# Altium integrated library Altium_WCAP-CSGP (rev22f).IntLib: 999 symbols (part 16 of 21)
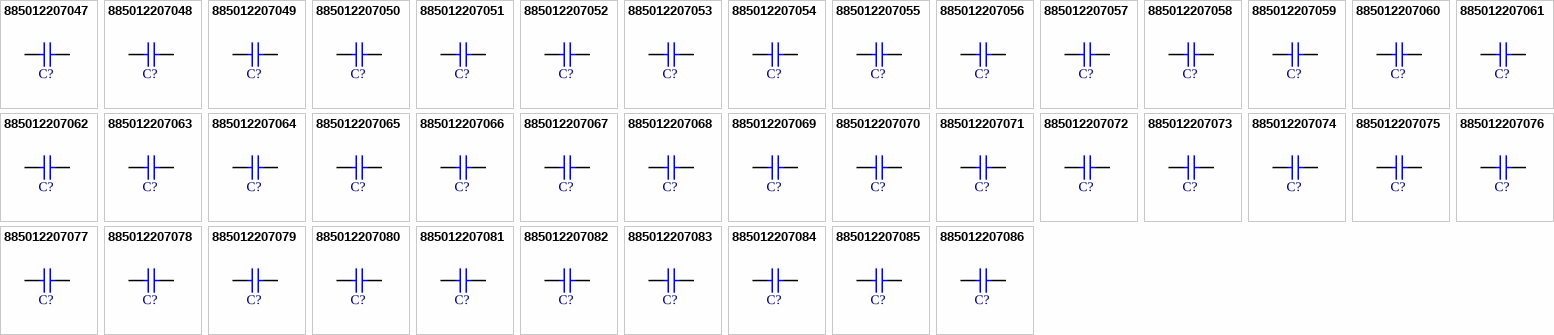
[diagram p39: symbols 885012207047 to 885012207086]

## 885012207055
designator C?, comment 150pF  (value not drawn)
WCAP-CSGP Multilayer Ceramic Chip Capacitor, General Purpose, size 0805, X7R, 150pF, 25VDC; Manufacturer Part Number: 885012207055; Manufacturer: Wurth Elektronik; Case/Size Code: 0805; Capacitance Tolerance: +/-10%; Dissipation Factor: 3.5%; Insulation Resistance: 10GΩ; Rated Voltage (DC): 25V; Technical Reference: X7R0805151K025DFCT10000; Category: Multilayer Ceramic Chip Capacitors; Match Code: WCAP-CSGP; ComponentLink1Description: Website Link; ComponentLink1URL: https://www.we-online.com/redexpert/article/885012207055?ad; ComponentLink2Description: Datasheet Link; ComponentLink2URL: https://www.we-online.com/redexpert/spec/885012207055?ad; Mount: Surface Mount; Operating Temperature Max: 125°C; Operating Temperature Min: -55°C; Packaging: Tape and Reel; Length: 2mm; Width: 1.25mm; Height: 0.8mm; Capacitance: 150pF; Ceramic Type: X7R
footprint WCAP-CSGP_0805_L2W1.25H0.8_Reflow
footprint WCAP-CSGP_0805_L2W1.25H0.8_Wave
simulation model 0805_885012207055_150pF
pins: 1, 2

## 885012207056
designator C?, comment 220pF  (value not drawn)
WCAP-CSGP Multilayer Ceramic Chip Capacitor, General Purpose, size 0805, X7R, 220pF, 25VDC; Manufacturer Part Number: 885012207056; Manufacturer: Wurth Elektronik; Case/Size Code: 0805; Capacitance Tolerance: +/-10%; Dissipation Factor: 3.5%; Insulation Resistance: 10GΩ; Rated Voltage (DC): 25V; Technical Reference: X7R0805221K025DFCT10000; Category: Multilayer Ceramic Chip Capacitors; Match Code: WCAP-CSGP; ComponentLink1Description: Website Link; ComponentLink1URL: https://www.we-online.com/redexpert/article/885012207056?ad; ComponentLink2Description: Datasheet Link; ComponentLink2URL: https://www.we-online.com/redexpert/spec/885012207056?ad; Mount: Surface Mount; Operating Temperature Max: 125°C; Operating Temperature Min: -55°C; Packaging: Tape and Reel; Length: 2mm; Width: 1.25mm; Height: 0.8mm; Capacitance: 220pF; Ceramic Type: X7R
footprint WCAP-CSGP_0805_L2W1.25H0.8_Reflow
footprint WCAP-CSGP_0805_L2W1.25H0.8_Wave
simulation model 0805_885012207056_220pF
pins: 1, 2

## 885012207057
designator C?, comment 330pF  (value not drawn)
WCAP-CSGP Multilayer Ceramic Chip Capacitor, General Purpose, size 0805, X7R, 330pF, 25VDC; Manufacturer Part Number: 885012207057; Manufacturer: Wurth Elektronik; Case/Size Code: 0805; Capacitance Tolerance: +/-10%; Dissipation Factor: 3.5%; Insulation Resistance: 10GΩ; Rated Voltage (DC): 25V; Technical Reference: X7R0805331K025DFCT10000; Category: Multilayer Ceramic Chip Capacitors; Match Code: WCAP-CSGP; ComponentLink1Description: Website Link; ComponentLink1URL: https://www.we-online.com/redexpert/article/885012207057?ad; ComponentLink2Description: Datasheet Link; ComponentLink2URL: https://www.we-online.com/redexpert/spec/885012207057?ad; Mount: Surface Mount; Operating Temperature Max: 125°C; Operating Temperature Min: -55°C; Packaging: Tape and Reel; Length: 2mm; Width: 1.25mm; Height: 0.8mm; Capacitance: 330pF; Ceramic Type: X7R
footprint WCAP-CSGP_0805_L2W1.25H0.8_Reflow
footprint WCAP-CSGP_0805_L2W1.25H0.8_Wave
simulation model 0805_885012207057_330pF
pins: 1, 2

## 885012207058
designator C?, comment 470pF  (value not drawn)
WCAP-CSGP Multilayer Ceramic Chip Capacitor, General Purpose, size 0805, X7R, 470pF, 25VDC; Manufacturer Part Number: 885012207058; Manufacturer: Wurth Elektronik; Case/Size Code: 0805; Capacitance Tolerance: +/-10%; Dissipation Factor: 3.5%; Insulation Resistance: 10GΩ; Rated Voltage (DC): 25V; Technical Reference: X7R0805471K025DFCT10000; Category: Multilayer Ceramic Chip Capacitors; Match Code: WCAP-CSGP; ComponentLink1Description: Website Link; ComponentLink1URL: https://www.we-online.com/redexpert/article/885012207058?ad; ComponentLink2Description: Datasheet Link; ComponentLink2URL: https://www.we-online.com/redexpert/spec/885012207058?ad; Mount: Surface Mount; Operating Temperature Max: 125°C; Operating Temperature Min: -55°C; Packaging: Tape and Reel; Length: 2mm; Width: 1.25mm; Height: 0.8mm; Capacitance: 470pF; Ceramic Type: X7R
footprint WCAP-CSGP_0805_L2W1.25H0.8_Reflow
footprint WCAP-CSGP_0805_L2W1.25H0.8_Wave
simulation model 0805_885012207058_470pF
pins: 1, 2

## 885012207059
designator C?, comment 680pF  (value not drawn)
WCAP-CSGP Multilayer Ceramic Chip Capacitor, General Purpose, size 0805, X7R, 680pF, 25VDC; Manufacturer Part Number: 885012207059; Manufacturer: Wurth Elektronik; Case/Size Code: 0805; Capacitance Tolerance: +/-10%; Dissipation Factor: 3.5%; Insulation Resistance: 10GΩ; Rated Voltage (DC): 25V; Technical Reference: X7R0805681K025DFCT10000; Category: Multilayer Ceramic Chip Capacitors; Match Code: WCAP-CSGP; ComponentLink1Description: Website Link; ComponentLink1URL: https://www.we-online.com/redexpert/article/885012207059?ad; ComponentLink2Description: Datasheet Link; ComponentLink2URL: https://www.we-online.com/redexpert/spec/885012207059?ad; Mount: Surface Mount; Operating Temperature Max: 125°C; Operating Temperature Min: -55°C; Packaging: Tape and Reel; Length: 2mm; Width: 1.25mm; Height: 0.8mm; Capacitance: 680pF; Ceramic Type: X7R
footprint WCAP-CSGP_0805_L2W1.25H0.8_Reflow
footprint WCAP-CSGP_0805_L2W1.25H0.8_Wave
simulation model 0805_885012207059_680pF
pins: 1, 2

## 885012207060
designator C?, comment 1nF  (value not drawn)
WCAP-CSGP Multilayer Ceramic Chip Capacitor, General Purpose, size 0805, X7R, 1nF, 25VDC; Manufacturer Part Number: 885012207060; Manufacturer: Wurth Elektronik; Case/Size Code: 0805; Capacitance Tolerance: +/-10%; Dissipation Factor: 3.5%; Insulation Resistance: 10GΩ; Rated Voltage (DC): 25V; Technical Reference: X7R0805102K025DFCT10000; Category: Multilayer Ceramic Chip Capacitors; Match Code: WCAP-CSGP; ComponentLink1Description: Website Link; ComponentLink1URL: https://www.we-online.com/redexpert/article/885012207060?ad; ComponentLink2Description: Datasheet Link; ComponentLink2URL: https://www.we-online.com/redexpert/spec/885012207060?ad; Mount: Surface Mount; Operating Temperature Max: 125°C; Operating Temperature Min: -55°C; Packaging: Tape and Reel; Length: 2mm; Width: 1.25mm; Height: 0.8mm; Capacitance: 1nF; Ceramic Type: X7R
footprint WCAP-CSGP_0805_L2W1.25H0.8_Reflow
footprint WCAP-CSGP_0805_L2W1.25H0.8_Wave
simulation model 0805_885012207060_1nF
pins: 1, 2

## 885012207061
designator C?, comment 1.5nF  (value not drawn)
WCAP-CSGP Multilayer Ceramic Chip Capacitor, General Purpose, size 0805, X7R, 1.5nF, 25VDC; Manufacturer Part Number: 885012207061; Manufacturer: Wurth Elektronik; Case/Size Code: 0805; Capacitance Tolerance: +/-10%; Dissipation Factor: 3.5%; Insulation Resistance: 10GΩ; Rated Voltage (DC): 25V; Technical Reference: X7R0805152K025DFCT10000; Category: Multilayer Ceramic Chip Capacitors; Match Code: WCAP-CSGP; ComponentLink1Description: Website Link; ComponentLink1URL: https://www.we-online.com/redexpert/article/885012207061?ad; ComponentLink2Description: Datasheet Link; ComponentLink2URL: https://www.we-online.com/redexpert/spec/885012207061?ad; Mount: Surface Mount; Operating Temperature Max: 125°C; Operating Temperature Min: -55°C; Packaging: Tape and Reel; Length: 2mm; Width: 1.25mm; Height: 0.8mm; Capacitance: 1.5nF; Ceramic Type: X7R
footprint WCAP-CSGP_0805_L2W1.25H0.8_Reflow
footprint WCAP-CSGP_0805_L2W1.25H0.8_Wave
simulation model 0805_885012207061_1.5nF
pins: 1, 2

## 885012207062
designator C?, comment 2.2nF  (value not drawn)
WCAP-CSGP Multilayer Ceramic Chip Capacitor, General Purpose, size 0805, X7R, 2.2nF, 25VDC; Manufacturer Part Number: 885012207062; Manufacturer: Wurth Elektronik; Case/Size Code: 0805; Capacitance Tolerance: +/-10%; Dissipation Factor: 3.5%; Insulation Resistance: 10GΩ; Rated Voltage (DC): 25V; Technical Reference: X7R0805222K025DFCT10000; Category: Multilayer Ceramic Chip Capacitors; Match Code: WCAP-CSGP; ComponentLink1Description: Website Link; ComponentLink1URL: https://www.we-online.com/redexpert/article/885012207062?ad; ComponentLink2Description: Datasheet Link; ComponentLink2URL: https://www.we-online.com/redexpert/spec/885012207062?ad; Mount: Surface Mount; Operating Temperature Max: 125°C; Operating Temperature Min: -55°C; Packaging: Tape and Reel; Length: 2mm; Width: 1.25mm; Height: 0.8mm; Capacitance: 2.2nF; Ceramic Type: X7R
footprint WCAP-CSGP_0805_L2W1.25H0.8_Reflow
footprint WCAP-CSGP_0805_L2W1.25H0.8_Wave
simulation model 0805_885012207062_2.2nF
pins: 1, 2

## 885012207063
designator C?, comment 3.3nF  (value not drawn)
WCAP-CSGP Multilayer Ceramic Chip Capacitor, General Purpose, size 0805, X7R, 3.3nF, 25VDC; Manufacturer Part Number: 885012207063; Manufacturer: Wurth Elektronik; Case/Size Code: 0805; Capacitance Tolerance: +/-10%; Dissipation Factor: 3.5%; Insulation Resistance: 10GΩ; Rated Voltage (DC): 25V; Technical Reference: X7R0805332K025DFCT10000; Category: Multilayer Ceramic Chip Capacitors; Match Code: WCAP-CSGP; ComponentLink1Description: Website Link; ComponentLink1URL: https://www.we-online.com/redexpert/article/885012207063?ad; ComponentLink2Description: Datasheet Link; ComponentLink2URL: https://www.we-online.com/redexpert/spec/885012207063?ad; Mount: Surface Mount; Operating Temperature Max: 125°C; Operating Temperature Min: -55°C; Packaging: Tape and Reel; Length: 2mm; Width: 1.25mm; Height: 0.8mm; Capacitance: 3.3nF; Ceramic Type: X7R
footprint WCAP-CSGP_0805_L2W1.25H0.8_Reflow
footprint WCAP-CSGP_0805_L2W1.25H0.8_Wave
simulation model 0805_885012207063_3.3nF
pins: 1, 2

## 885012207064
designator C?, comment 4.7nF  (value not drawn)
WCAP-CSGP Multilayer Ceramic Chip Capacitor, General Purpose, size 0805, X7R, 4.7nF, 25VDC; Manufacturer Part Number: 885012207064; Manufacturer: Wurth Elektronik; Case/Size Code: 0805; Capacitance Tolerance: +/-10%; Dissipation Factor: 3.5%; Insulation Resistance: 10GΩ; Rated Voltage (DC): 25V; Technical Reference: X7R0805472K025DFCT10000; Category: Multilayer Ceramic Chip Capacitors; Match Code: WCAP-CSGP; ComponentLink1Description: Website Link; ComponentLink1URL: https://www.we-online.com/redexpert/article/885012207064?ad; ComponentLink2Description: Datasheet Link; ComponentLink2URL: https://www.we-online.com/redexpert/spec/885012207064?ad; Mount: Surface Mount; Operating Temperature Max: 125°C; Operating Temperature Min: -55°C; Packaging: Tape and Reel; Length: 2mm; Width: 1.25mm; Height: 0.8mm; Capacitance: 4.7nF; Ceramic Type: X7R
footprint WCAP-CSGP_0805_L2W1.25H0.8_Reflow
footprint WCAP-CSGP_0805_L2W1.25H0.8_Wave
simulation model 0805_885012207064_4.7nF
pins: 1, 2

## 885012207065
designator C?, comment 6.8nF  (value not drawn)
WCAP-CSGP Multilayer Ceramic Chip Capacitor, General Purpose, size 0805, X7R, 6.8nF, 25VDC; Manufacturer Part Number: 885012207065; Manufacturer: Wurth Elektronik; Case/Size Code: 0805; Capacitance Tolerance: +/-10%; Dissipation Factor: 3.5%; Insulation Resistance: 10GΩ; Rated Voltage (DC): 25V; Technical Reference: X7R0805682K025DFCT10000; Category: Multilayer Ceramic Chip Capacitors; Match Code: WCAP-CSGP; ComponentLink1Description: Website Link; ComponentLink1URL: https://www.we-online.com/redexpert/article/885012207065?ad; ComponentLink2Description: Datasheet Link; ComponentLink2URL: https://www.we-online.com/redexpert/spec/885012207065?ad; Mount: Surface Mount; Operating Temperature Max: 125°C; Operating Temperature Min: -55°C; Packaging: Tape and Reel; Length: 2mm; Width: 1.25mm; Height: 0.8mm; Capacitance: 6.8nF; Ceramic Type: X7R
footprint WCAP-CSGP_0805_L2W1.25H0.8_Reflow
footprint WCAP-CSGP_0805_L2W1.25H0.8_Wave
simulation model 0805_885012207065_6.8nF
pins: 1, 2

## 885012207066
designator C?, comment 10nF  (value not drawn)
WCAP-CSGP Multilayer Ceramic Chip Capacitor, General Purpose, size 0805, X7R, 10nF, 25VDC; Manufacturer Part Number: 885012207066; Manufacturer: Wurth Elektronik; Case/Size Code: 0805; Capacitance Tolerance: +/-10%; Dissipation Factor: 3.5%; Insulation Resistance: 10GΩ; Rated Voltage (DC): 25V; Technical Reference: X7R0805103K025DFCT10000; Category: Multilayer Ceramic Chip Capacitors; Match Code: WCAP-CSGP; ComponentLink1Description: Website Link; ComponentLink1URL: https://www.we-online.com/redexpert/article/885012207066?ad; ComponentLink2Description: Datasheet Link; ComponentLink2URL: https://www.we-online.com/redexpert/spec/885012207066?ad; Mount: Surface Mount; Operating Temperature Max: 125°C; Operating Temperature Min: -55°C; Packaging: Tape and Reel; Length: 2mm; Width: 1.25mm; Height: 0.8mm; Capacitance: 10nF; Ceramic Type: X7R
footprint WCAP-CSGP_0805_L2W1.25H0.8_Reflow
footprint WCAP-CSGP_0805_L2W1.25H0.8_Wave
simulation model 0805_885012207066_10nF
pins: 1, 2

## 885012207067
designator C?, comment 15nF  (value not drawn)
WCAP-CSGP Multilayer Ceramic Chip Capacitor, General Purpose, size 0805, X7R, 15nF, 25VDC; Manufacturer Part Number: 885012207067; Manufacturer: Wurth Elektronik; Case/Size Code: 0805; Capacitance Tolerance: +/-10%; Dissipation Factor: 3.5%; Insulation Resistance: 10GΩ; Rated Voltage (DC): 25V; Technical Reference: X7R0805153K025DFCT10000; Category: Multilayer Ceramic Chip Capacitors; Match Code: WCAP-CSGP; ComponentLink1Description: Website Link; ComponentLink1URL: https://www.we-online.com/redexpert/article/885012207067?ad; ComponentLink2Description: Datasheet Link; ComponentLink2URL: https://www.we-online.com/redexpert/spec/885012207067?ad; Mount: Surface Mount; Operating Temperature Max: 125°C; Operating Temperature Min: -55°C; Packaging: Tape and Reel; Length: 2mm; Width: 1.25mm; Height: 0.8mm; Capacitance: 15nF; Ceramic Type: X7R
footprint WCAP-CSGP_0805_L2W1.25H0.8_Reflow
footprint WCAP-CSGP_0805_L2W1.25H0.8_Wave
simulation model 0805_885012207067_15nF
pins: 1, 2

## 885012207068
designator C?, comment 22nF  (value not drawn)
WCAP-CSGP Multilayer Ceramic Chip Capacitor, General Purpose, size 0805, X7R, 22nF, 25VDC; Manufacturer Part Number: 885012207068; Manufacturer: Wurth Elektronik; Case/Size Code: 0805; Capacitance Tolerance: +/-10%; Dissipation Factor: 3.5%; Insulation Resistance: 10GΩ; Rated Voltage (DC): 25V; Technical Reference: X7R0805223K025DFCT10000; Category: Multilayer Ceramic Chip Capacitors; Match Code: WCAP-CSGP; ComponentLink1Description: Website Link; ComponentLink1URL: https://www.we-online.com/redexpert/article/885012207068?ad; ComponentLink2Description: Datasheet Link; ComponentLink2URL: https://www.we-online.com/redexpert/spec/885012207068?ad; Mount: Surface Mount; Operating Temperature Max: 125°C; Operating Temperature Min: -55°C; Packaging: Tape and Reel; Length: 2mm; Width: 1.25mm; Height: 0.8mm; Capacitance: 22nF; Ceramic Type: X7R
footprint WCAP-CSGP_0805_L2W1.25H0.8_Reflow
footprint WCAP-CSGP_0805_L2W1.25H0.8_Wave
simulation model 0805_885012207068_22nF
pins: 1, 2

## 885012207069
designator C?, comment 33nF  (value not drawn)
WCAP-CSGP Multilayer Ceramic Chip Capacitor, General Purpose, size 0805, X7R, 33nF, 25VDC; Manufacturer Part Number: 885012207069; Manufacturer: Wurth Elektronik; Case/Size Code: 0805; Capacitance Tolerance: +/-10%; Dissipation Factor: 3.5%; Insulation Resistance: 10GΩ; Rated Voltage (DC): 25V; Technical Reference: X7R0805333K025DFCT10000; Category: Multilayer Ceramic Chip Capacitors; Match Code: WCAP-CSGP; ComponentLink1Description: Website Link; ComponentLink1URL: https://www.we-online.com/redexpert/article/885012207069?ad; ComponentLink2Description: Datasheet Link; ComponentLink2URL: https://www.we-online.com/redexpert/spec/885012207069?ad; Mount: Surface Mount; Operating Temperature Max: 125°C; Operating Temperature Min: -55°C; Packaging: Tape and Reel; Length: 2mm; Width: 1.25mm; Height: 0.8mm; Capacitance: 33nF; Ceramic Type: X7R
footprint WCAP-CSGP_0805_L2W1.25H0.8_Reflow
footprint WCAP-CSGP_0805_L2W1.25H0.8_Wave
simulation model 0805_885012207069_33nF
pins: 1, 2

## 885012207070
designator C?, comment 47nF  (value not drawn)
WCAP-CSGP Multilayer Ceramic Chip Capacitor, General Purpose, size 0805, X7R, 47nF, 25VDC; Manufacturer Part Number: 885012207070; Manufacturer: Wurth Elektronik; Case/Size Code: 0805; Capacitance Tolerance: +/-10%; Dissipation Factor: 3.5%; Insulation Resistance: 10GΩ; Rated Voltage (DC): 25V; Technical Reference: X7R0805473K025DFCT10000; Category: Multilayer Ceramic Chip Capacitors; Match Code: WCAP-CSGP; ComponentLink1Description: Website Link; ComponentLink1URL: https://www.we-online.com/redexpert/article/885012207070?ad; ComponentLink2Description: Datasheet Link; ComponentLink2URL: https://www.we-online.com/redexpert/spec/885012207070?ad; Mount: Surface Mount; Operating Temperature Max: 125°C; Operating Temperature Min: -55°C; Packaging: Tape and Reel; Length: 2mm; Width: 1.25mm; Height: 0.8mm; Capacitance: 47nF; Ceramic Type: X7R
footprint WCAP-CSGP_0805_L2W1.25H0.8_Reflow
footprint WCAP-CSGP_0805_L2W1.25H0.8_Wave
simulation model 0805_885012207070_47nF
pins: 1, 2

## 885012207071
designator C?, comment 68nF  (value not drawn)
WCAP-CSGP Multilayer Ceramic Chip Capacitor, General Purpose, size 0805, X7R, 68nF, 25VDC; Manufacturer Part Number: 885012207071; Manufacturer: Wurth Elektronik; Case/Size Code: 0805; Capacitance Tolerance: +/-10%; Dissipation Factor: 3.5%; Insulation Resistance: 7.4GΩ; Rated Voltage (DC): 25V; Technical Reference: X7R0805683K025DFCT10000; Category: Multilayer Ceramic Chip Capacitors; Match Code: WCAP-CSGP; ComponentLink1Description: Website Link; ComponentLink1URL: https://www.we-online.com/redexpert/article/885012207071?ad; ComponentLink2Description: Datasheet Link; ComponentLink2URL: https://www.we-online.com/redexpert/spec/885012207071?ad; Mount: Surface Mount; Operating Temperature Max: 125°C; Operating Temperature Min: -55°C; Packaging: Tape and Reel; Length: 2mm; Width: 1.25mm; Height: 0.8mm; Capacitance: 68nF; Ceramic Type: X7R
footprint WCAP-CSGP_0805_L2W1.25H0.8_Reflow
footprint WCAP-CSGP_0805_L2W1.25H0.8_Wave
simulation model 0805_885012207071_68nF
pins: 1, 2

## 885012207072
designator C?, comment 100nF  (value not drawn)
WCAP-CSGP Multilayer Ceramic Chip Capacitor, General Purpose, size 0805, X7R, 100nF, 25VDC; Manufacturer Part Number: 885012207072; Manufacturer: Wurth Elektronik; Case/Size Code: 0805; Capacitance Tolerance: +/-10%; Dissipation Factor: 3.5%; Insulation Resistance: 5GΩ; Rated Voltage (DC): 25V; Technical Reference: X7R0805104K025DFCT10000; Category: Multilayer Ceramic Chip Capacitors; Match Code: WCAP-CSGP; ComponentLink1Description: Website Link; ComponentLink1URL: https://www.we-online.com/redexpert/article/885012207072?ad; ComponentLink2Description: Datasheet Link; ComponentLink2URL: https://www.we-online.com/redexpert/spec/885012207072?ad; Mount: Surface Mount; Operating Temperature Max: 125°C; Operating Temperature Min: -55°C; Packaging: Tape and Reel; Length: 2mm; Width: 1.25mm; Height: 0.8mm; Capacitance: 100nF; Ceramic Type: X7R
footprint WCAP-CSGP_0805_L2W1.25H0.8_Reflow
footprint WCAP-CSGP_0805_L2W1.25H0.8_Wave
simulation model 0805_885012207072_100nF
pins: 1, 2

## 885012207073
designator C?, comment 150nF  (value not drawn)
WCAP-CSGP Multilayer Ceramic Chip Capacitor, General Purpose, size 0805, X7R, 150nF, 25VDC; Manufacturer Part Number: 885012207073; Manufacturer: Wurth Elektronik; Case/Size Code: 0805; Capacitance Tolerance: +/-10%; Dissipation Factor: 3.5%; Insulation Resistance: 3.3GΩ; Rated Voltage (DC): 25V; Technical Reference: X7R0805154K025DFCT10000; Category: Multilayer Ceramic Chip Capacitors; Match Code: WCAP-CSGP; ComponentLink1Description: Website Link; ComponentLink1URL: https://www.we-online.com/redexpert/article/885012207073?ad; ComponentLink2Description: Datasheet Link; ComponentLink2URL: https://www.we-online.com/redexpert/spec/885012207073?ad; Mount: Surface Mount; Operating Temperature Max: 125°C; Operating Temperature Min: -55°C; Packaging: Tape and Reel; Length: 2mm; Width: 1.25mm; Height: 1.25mm; Capacitance: 150nF; Ceramic Type: X7R
footprint WCAP-CSGP_0805_L2W1.25H1.25
simulation model 0805_885012207073_150nF
pins: 1, 2

## 885012207074
designator C?, comment 220nF  (value not drawn)
WCAP-CSGP Multilayer Ceramic Chip Capacitor, General Purpose, size 0805, X7R, 220nF, 25VDC; Manufacturer Part Number: 885012207074; Manufacturer: Wurth Elektronik; Case/Size Code: 0805; Capacitance Tolerance: +/-10%; Dissipation Factor: 3.5%; Insulation Resistance: 2.3GΩ; Rated Voltage (DC): 25V; Technical Reference: X7R0805224K025DFCT10000; Category: Multilayer Ceramic Chip Capacitors; Match Code: WCAP-CSGP; ComponentLink1Description: Website Link; ComponentLink1URL: https://www.we-online.com/redexpert/article/885012207074?ad; ComponentLink2Description: Datasheet Link; ComponentLink2URL: https://www.we-online.com/redexpert/spec/885012207074?ad; Mount: Surface Mount; Operating Temperature Max: 125°C; Operating Temperature Min: -55°C; Packaging: Tape and Reel; Length: 2mm; Width: 1.25mm; Height: 1.25mm; Capacitance: 220nF; Ceramic Type: X7R
footprint WCAP-CSGP_0805_L2W1.25H1.25
simulation model 0805_885012207074_220nF
pins: 1, 2

## 885012207075
designator C?, comment 330nF  (value not drawn)
WCAP-CSGP Multilayer Ceramic Chip Capacitor, General Purpose, size 0805, X7R, 330nF, 25VDC; Manufacturer Part Number: 885012207075; Manufacturer: Wurth Elektronik; Case/Size Code: 0805; Capacitance Tolerance: +/-10%; Dissipation Factor: 3.5%; Insulation Resistance: 1.5GΩ; Rated Voltage (DC): 25V; Technical Reference: X7R0805334K025DFCT10000; Category: Multilayer Ceramic Chip Capacitors; Match Code: WCAP-CSGP; ComponentLink1Description: Website Link; ComponentLink1URL: https://www.we-online.com/redexpert/article/885012207075?ad; ComponentLink2Description: Datasheet Link; ComponentLink2URL: https://www.we-online.com/redexpert/spec/885012207075?ad; Mount: Surface Mount; Operating Temperature Max: 125°C; Operating Temperature Min: -55°C; Packaging: Tape and Reel; Length: 2mm; Width: 1.25mm; Height: 1.25mm; Capacitance: 330nF; Ceramic Type: X7R
footprint WCAP-CSGP_0805_L2W1.25H1.25
simulation model 0805_885012207075_330nF
pins: 1, 2

## 885012207076
designator C?, comment 470nF  (value not drawn)
WCAP-CSGP Multilayer Ceramic Chip Capacitor, General Purpose, size 0805, X7R, 470nF, 25VDC; Manufacturer Part Number: 885012207076; Manufacturer: Wurth Elektronik; Case/Size Code: 0805; Capacitance Tolerance: +/-10%; Dissipation Factor: 3.5%; Insulation Resistance: 1.1GΩ; Rated Voltage (DC): 25V; Technical Reference: X7R0805474K025DFCT10000; Category: Multilayer Ceramic Chip Capacitors; Match Code: WCAP-CSGP; ComponentLink1Description: Website Link; ComponentLink1URL: https://www.we-online.com/redexpert/article/885012207076?ad; ComponentLink2Description: Datasheet Link; ComponentLink2URL: https://www.we-online.com/redexpert/spec/885012207076?ad; Mount: Surface Mount; Operating Temperature Max: 125°C; Operating Temperature Min: -55°C; Packaging: Tape and Reel; Length: 2mm; Width: 1.25mm; Height: 1.25mm; Capacitance: 470nF; Ceramic Type: X7R
footprint WCAP-CSGP_0805_L2W1.25H1.25
simulation model 0805_885012207076_470nF
pins: 1, 2

## 885012207077
designator C?, comment 680nF  (value not drawn)
WCAP-CSGP Multilayer Ceramic Chip Capacitor, General Purpose, size 0805, X7R, 680nF, 25VDC; Manufacturer Part Number: 885012207077; Manufacturer: Wurth Elektronik; Case/Size Code: 0805; Capacitance Tolerance: +/-10%; Dissipation Factor: 3.5%; Insulation Resistance: 0.7GΩ; Rated Voltage (DC): 25V; Technical Reference: X7R0805684K025DFCT10000; Category: Multilayer Ceramic Chip Capacitors; Match Code: WCAP-CSGP; ComponentLink1Description: Website Link; ComponentLink1URL: https://www.we-online.com/redexpert/article/885012207077?ad; ComponentLink2Description: Datasheet Link; ComponentLink2URL: https://www.we-online.com/redexpert/spec/885012207077?ad; Mount: Surface Mount; Operating Temperature Max: 125°C; Operating Temperature Min: -55°C; Packaging: Tape and Reel; Length: 2mm; Width: 1.25mm; Height: 1.25mm; Capacitance: 680nF; Ceramic Type: X7R
footprint WCAP-CSGP_0805_L2W1.25H1.25
simulation model 0805_885012207077_680nF
pins: 1, 2

## 885012207078
designator C?, comment 1µF  (value not drawn)
WCAP-CSGP Multilayer Ceramic Chip Capacitor, General Purpose, size 0805, X7R, 1µF, 25VDC; Manufacturer Part Number: 885012207078; Manufacturer: Wurth Elektronik; Case/Size Code: 0805; Capacitance Tolerance: +/-10%; Dissipation Factor: 5%; Insulation Resistance: 0.5GΩ; Rated Voltage (DC): 25V; Technical Reference: X7R0805105K025DFCT10000; Category: Multilayer Ceramic Chip Capacitors; Match Code: WCAP-CSGP; ComponentLink1Description: Website Link; ComponentLink1URL: https://www.we-online.com/redexpert/article/885012207078?ad; ComponentLink2Description: Datasheet Link; ComponentLink2URL: https://www.we-online.com/redexpert/spec/885012207078?ad; Mount: Surface Mount; Operating Temperature Max: 125°C; Operating Temperature Min: -55°C; Packaging: Tape and Reel; Length: 2mm; Width: 1.25mm; Height: 1.25mm; Capacitance: 1µF; Ceramic Type: X7R
footprint WCAP-CSGP_0805_L2W1.25H1.25
simulation model 0805_885012207078_1uF
pins: 1, 2

## 885012207079
designator C?, comment 2.2µF  (value not drawn)
WCAP-CSGP Multilayer Ceramic Chip Capacitor, General Purpose, size 0805, X7R, 2.2µF, 25VDC; Manufacturer Part Number: 885012207079; Manufacturer: Wurth Elektronik; Case/Size Code: 0805; Capacitance Tolerance: +/-10%; Dissipation Factor: 10%; Insulation Resistance: 0.05GΩ; Rated Voltage (DC): 25V; Technical Reference: X7R0805225K025DFCT10000; Category: Multilayer Ceramic Chip Capacitors; Match Code: WCAP-CSGP; ComponentLink1Description: Website Link; ComponentLink1URL: https://www.we-online.com/redexpert/article/885012207079?ad; ComponentLink2Description: Datasheet Link; ComponentLink2URL: https://www.we-online.com/redexpert/spec/885012207079?ad; Mount: Surface Mount; Operating Temperature Max: 125°C; Operating Temperature Min: -55°C; Packaging: Tape and Reel; Length: 2mm; Width: 1.25mm; Height: 1.25mm; Capacitance: 2.2µF; Ceramic Type: X7R
footprint WCAP-CSGP_0805_L2W1.25H1.25
simulation model 0805_885012207079_2.2uF
pins: 1, 2

## 885012207080
designator C?, comment 100pF  (value not drawn)
WCAP-CSGP Multilayer Ceramic Chip Capacitor, General Purpose, size 0805, X7R, 100pF, 50VDC; Manufacturer Part Number: 885012207080; Manufacturer: Wurth Elektronik; Case/Size Code: 0805; Capacitance Tolerance: +/-10%; Dissipation Factor: 2.5%; Insulation Resistance: 10GΩ; Rated Voltage (DC): 50V; Technical Reference: X7R0805101K050DFCT10000; Category: Multilayer Ceramic Chip Capacitors; Match Code: WCAP-CSGP; ComponentLink1Description: Website Link; ComponentLink1URL: https://www.we-online.com/redexpert/article/885012207080?ad; ComponentLink2Description: Datasheet Link; ComponentLink2URL: https://www.we-online.com/redexpert/spec/885012207080?ad; Mount: Surface Mount; Operating Temperature Max: 125°C; Operating Temperature Min: -55°C; Packaging: Tape and Reel; Length: 2mm; Width: 1.25mm; Height: 0.8mm; Capacitance: 100pF; Ceramic Type: X7R
footprint WCAP-CSGP_0805_L2W1.25H0.8_Reflow
footprint WCAP-CSGP_0805_L2W1.25H0.8_Wave
simulation model 0805_885012207080_100pF
pins: 1, 2

## 885012207081
designator C?, comment 150pF  (value not drawn)
WCAP-CSGP Multilayer Ceramic Chip Capacitor, General Purpose, size 0805, X7R, 150pF, 50VDC; Manufacturer Part Number: 885012207081; Manufacturer: Wurth Elektronik; Case/Size Code: 0805; Capacitance Tolerance: +/-10%; Dissipation Factor: 2.5%; Insulation Resistance: 10GΩ; Rated Voltage (DC): 50V; Technical Reference: X7R0805151K050DFCT10000; Category: Multilayer Ceramic Chip Capacitors; Match Code: WCAP-CSGP; ComponentLink1Description: Website Link; ComponentLink1URL: https://www.we-online.com/redexpert/article/885012207081?ad; ComponentLink2Description: Datasheet Link; ComponentLink2URL: https://www.we-online.com/redexpert/spec/885012207081?ad; Mount: Surface Mount; Operating Temperature Max: 125°C; Operating Temperature Min: -55°C; Packaging: Tape and Reel; Length: 2mm; Width: 1.25mm; Height: 0.8mm; Capacitance: 150pF; Ceramic Type: X7R
footprint WCAP-CSGP_0805_L2W1.25H0.8_Reflow
footprint WCAP-CSGP_0805_L2W1.25H0.8_Wave
simulation model 0805_885012207081_150pF
pins: 1, 2

## 885012207082
designator C?, comment 220pF  (value not drawn)
WCAP-CSGP Multilayer Ceramic Chip Capacitor, General Purpose, size 0805, X7R, 220pF, 50VDC; Manufacturer Part Number: 885012207082; Manufacturer: Wurth Elektronik; Case/Size Code: 0805; Capacitance Tolerance: +/-10%; Dissipation Factor: 2.5%; Insulation Resistance: 10GΩ; Rated Voltage (DC): 50V; Technical Reference: X7R0805221K050DFCT10000; Category: Multilayer Ceramic Chip Capacitors; Match Code: WCAP-CSGP; ComponentLink1Description: Website Link; ComponentLink1URL: https://www.we-online.com/redexpert/article/885012207082?ad; ComponentLink2Description: Datasheet Link; ComponentLink2URL: https://www.we-online.com/redexpert/spec/885012207082?ad; Mount: Surface Mount; Operating Temperature Max: 125°C; Operating Temperature Min: -55°C; Packaging: Tape and Reel; Length: 2mm; Width: 1.25mm; Height: 0.8mm; Capacitance: 220pF; Ceramic Type: X7R
footprint WCAP-CSGP_0805_L2W1.25H0.8_Reflow
footprint WCAP-CSGP_0805_L2W1.25H0.8_Wave
simulation model 0805_885012207082_220pF
pins: 1, 2

## 885012207083
designator C?, comment 330pF  (value not drawn)
WCAP-CSGP Multilayer Ceramic Chip Capacitor, General Purpose, size 0805, X7R, 330pF, 50VDC; Manufacturer Part Number: 885012207083; Manufacturer: Wurth Elektronik; Case/Size Code: 0805; Capacitance Tolerance: +/-10%; Dissipation Factor: 2.5%; Insulation Resistance: 10GΩ; Rated Voltage (DC): 50V; Technical Reference: X7R0805331K050DFCT10000; Category: Multilayer Ceramic Chip Capacitors; Match Code: WCAP-CSGP; ComponentLink1Description: Website Link; ComponentLink1URL: https://www.we-online.com/redexpert/article/885012207083?ad; ComponentLink2Description: Datasheet Link; ComponentLink2URL: https://www.we-online.com/redexpert/spec/885012207083?ad; Mount: Surface Mount; Operating Temperature Max: 125°C; Operating Temperature Min: -55°C; Packaging: Tape and Reel; Length: 2mm; Width: 1.25mm; Height: 0.8mm; Capacitance: 330pF; Ceramic Type: X7R
footprint WCAP-CSGP_0805_L2W1.25H0.8_Reflow
footprint WCAP-CSGP_0805_L2W1.25H0.8_Wave
simulation model 0805_885012207083_330pF
pins: 1, 2

## 885012207084
designator C?, comment 470pF  (value not drawn)
WCAP-CSGP Multilayer Ceramic Chip Capacitor, General Purpose, size 0805, X7R, 470pF, 50VDC; Manufacturer Part Number: 885012207084; Manufacturer: Wurth Elektronik; Case/Size Code: 0805; Capacitance Tolerance: +/-10%; Dissipation Factor: 2.5%; Insulation Resistance: 10GΩ; Rated Voltage (DC): 50V; Technical Reference: X7R0805471K050DFCT10000; Category: Multilayer Ceramic Chip Capacitors; Match Code: WCAP-CSGP; ComponentLink1Description: Website Link; ComponentLink1URL: https://www.we-online.com/redexpert/article/885012207084?ad; ComponentLink2Description: Datasheet Link; ComponentLink2URL: https://www.we-online.com/redexpert/spec/885012207084?ad; Mount: Surface Mount; Operating Temperature Max: 125°C; Operating Temperature Min: -55°C; Packaging: Tape and Reel; Length: 2mm; Width: 1.25mm; Height: 0.8mm; Capacitance: 470pF; Ceramic Type: X7R
footprint WCAP-CSGP_0805_L2W1.25H0.8_Reflow
footprint WCAP-CSGP_0805_L2W1.25H0.8_Wave
simulation model 0805_885012207084_470pF
pins: 1, 2

## 885012207085
designator C?, comment 680pF  (value not drawn)
WCAP-CSGP Multilayer Ceramic Chip Capacitor, General Purpose, size 0805, X7R, 680pF, 50VDC; Manufacturer Part Number: 885012207085; Manufacturer: Wurth Elektronik; Case/Size Code: 0805; Capacitance Tolerance: +/-10%; Dissipation Factor: 2.5%; Insulation Resistance: 10GΩ; Rated Voltage (DC): 50V; Technical Reference: X7R0805681K050DFCT10000; Category: Multilayer Ceramic Chip Capacitors; Match Code: WCAP-CSGP; ComponentLink1Description: Website Link; ComponentLink1URL: https://www.we-online.com/redexpert/article/885012207085?ad; ComponentLink2Description: Datasheet Link; ComponentLink2URL: https://www.we-online.com/redexpert/spec/885012207085?ad; Mount: Surface Mount; Operating Temperature Max: 125°C; Operating Temperature Min: -55°C; Packaging: Tape and Reel; Length: 2mm; Width: 1.25mm; Height: 0.8mm; Capacitance: 680pF; Ceramic Type: X7R
footprint WCAP-CSGP_0805_L2W1.25H0.8_Reflow
footprint WCAP-CSGP_0805_L2W1.25H0.8_Wave
simulation model 0805_885012207085_680pF
pins: 1, 2

## 885012207086
designator C?, comment 1nF  (value not drawn)
WCAP-CSGP Multilayer Ceramic Chip Capacitor, General Purpose, size 0805, X7R, 1nF, 50VDC; Manufacturer Part Number: 885012207086; Manufacturer: Wurth Elektronik; Case/Size Code: 0805; Capacitance Tolerance: +/-10%; Dissipation Factor: 2.5%; Insulation Resistance: 10GΩ; Rated Voltage (DC): 50V; Technical Reference: X7R0805102K050DFCT10000; Category: Multilayer Ceramic Chip Capacitors; Match Code: WCAP-CSGP; ComponentLink1Description: Website Link; ComponentLink1URL: https://www.we-online.com/redexpert/article/885012207086?ad; ComponentLink2Description: Datasheet Link; ComponentLink2URL: https://www.we-online.com/redexpert/spec/885012207086?ad; Mount: Surface Mount; Operating Temperature Max: 125°C; Operating Temperature Min: -55°C; Packaging: Tape and Reel; Length: 2mm; Width: 1.25mm; Height: 0.8mm; Capacitance: 1nF; Ceramic Type: X7R
footprint WCAP-CSGP_0805_L2W1.25H0.8_Reflow
footprint WCAP-CSGP_0805_L2W1.25H0.8_Wave
simulation model 0805_885012207086_1nF
pins: 1, 2

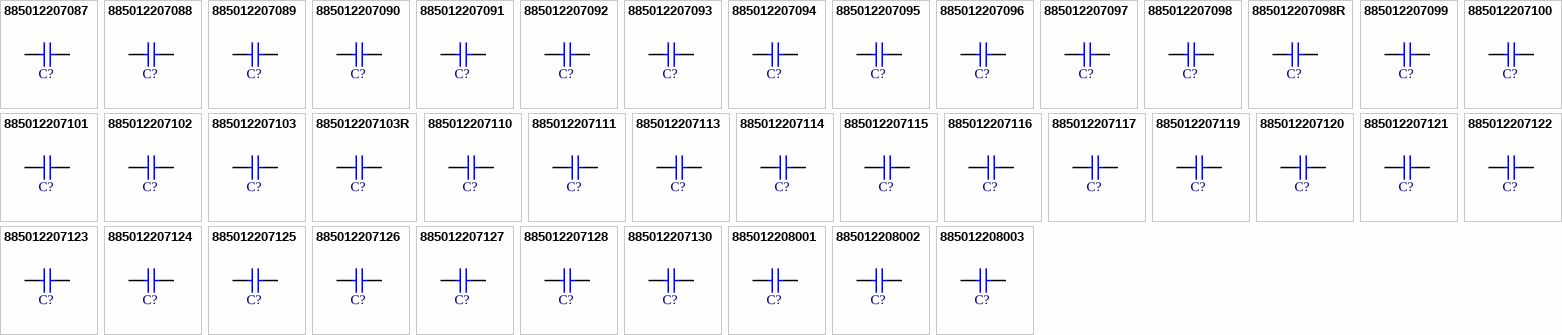
[diagram p19: symbols 885012207087 to 885012208003]

## 885012207087
designator C?, comment 1.5nF  (value not drawn)
WCAP-CSGP Multilayer Ceramic Chip Capacitor, General Purpose, size 0805, X7R, 1.5nF, 50VDC; Manufacturer Part Number: 885012207087; Manufacturer: Wurth Elektronik; Case/Size Code: 0805; Capacitance Tolerance: +/-10%; Dissipation Factor: 2.5%; Insulation Resistance: 10GΩ; Rated Voltage (DC): 50V; Technical Reference: X7R0805152K050DFCT10000; Category: Multilayer Ceramic Chip Capacitors; Match Code: WCAP-CSGP; ComponentLink1Description: Website Link; ComponentLink1URL: https://www.we-online.com/redexpert/article/885012207087?ad; ComponentLink2Description: Datasheet Link; ComponentLink2URL: https://www.we-online.com/redexpert/spec/885012207087?ad; Mount: Surface Mount; Operating Temperature Max: 125°C; Operating Temperature Min: -55°C; Packaging: Tape and Reel; Length: 2mm; Width: 1.25mm; Height: 0.8mm; Capacitance: 1.5nF; Ceramic Type: X7R
footprint WCAP-CSGP_0805_L2W1.25H0.8_Reflow
footprint WCAP-CSGP_0805_L2W1.25H0.8_Wave
simulation model 0805_885012207087_1.5nF
pins: 1, 2

## 885012207088
designator C?, comment 2.2nF  (value not drawn)
WCAP-CSGP Multilayer Ceramic Chip Capacitor, General Purpose, size 0805, X7R, 2.2nF, 50VDC; Manufacturer Part Number: 885012207088; Manufacturer: Wurth Elektronik; Case/Size Code: 0805; Capacitance Tolerance: +/-10%; Dissipation Factor: 2.5%; Insulation Resistance: 10GΩ; Rated Voltage (DC): 50V; Technical Reference: X7R0805222K050DFCT10000; Category: Multilayer Ceramic Chip Capacitors; Match Code: WCAP-CSGP; ComponentLink1Description: Website Link; ComponentLink1URL: https://www.we-online.com/redexpert/article/885012207088?ad; ComponentLink2Description: Datasheet Link; ComponentLink2URL: https://www.we-online.com/redexpert/spec/885012207088?ad; Mount: Surface Mount; Operating Temperature Max: 125°C; Operating Temperature Min: -55°C; Packaging: Tape and Reel; Length: 2mm; Width: 1.25mm; Height: 0.8mm; Capacitance: 2.2nF; Ceramic Type: X7R
footprint WCAP-CSGP_0805_L2W1.25H0.8_Reflow
footprint WCAP-CSGP_0805_L2W1.25H0.8_Wave
simulation model 0805_885012207088_2.2nF
pins: 1, 2

## 885012207089
designator C?, comment 3.3nF  (value not drawn)
WCAP-CSGP Multilayer Ceramic Chip Capacitor, General Purpose, size 0805, X7R, 3.3nF, 50VDC; Manufacturer Part Number: 885012207089; Manufacturer: Wurth Elektronik; Case/Size Code: 0805; Capacitance Tolerance: +/-10%; Dissipation Factor: 2.5%; Insulation Resistance: 10GΩ; Rated Voltage (DC): 50V; Technical Reference: X7R0805332K050DFCT10000; Category: Multilayer Ceramic Chip Capacitors; Match Code: WCAP-CSGP; ComponentLink1Description: Website Link; ComponentLink1URL: https://www.we-online.com/redexpert/article/885012207089?ad; ComponentLink2Description: Datasheet Link; ComponentLink2URL: https://www.we-online.com/redexpert/spec/885012207089?ad; Mount: Surface Mount; Operating Temperature Max: 125°C; Operating Temperature Min: -55°C; Packaging: Tape and Reel; Length: 2mm; Width: 1.25mm; Height: 0.8mm; Capacitance: 3.3nF; Ceramic Type: X7R
footprint WCAP-CSGP_0805_L2W1.25H0.8_Reflow
footprint WCAP-CSGP_0805_L2W1.25H0.8_Wave
simulation model 0805_885012207089_3.3nF
pins: 1, 2

## 885012207090
designator C?, comment 4.7nF  (value not drawn)
WCAP-CSGP Multilayer Ceramic Chip Capacitor, General Purpose, size 0805, X7R, 4.7nF, 50VDC; Manufacturer Part Number: 885012207090; Manufacturer: Wurth Elektronik; Case/Size Code: 0805; Capacitance Tolerance: +/-10%; Dissipation Factor: 2.5%; Insulation Resistance: 10GΩ; Rated Voltage (DC): 50V; Technical Reference: X7R0805472K050DFCT10000; Category: Multilayer Ceramic Chip Capacitors; Match Code: WCAP-CSGP; ComponentLink1Description: Website Link; ComponentLink1URL: https://www.we-online.com/redexpert/article/885012207090?ad; ComponentLink2Description: Datasheet Link; ComponentLink2URL: https://www.we-online.com/redexpert/spec/885012207090?ad; Mount: Surface Mount; Operating Temperature Max: 125°C; Operating Temperature Min: -55°C; Packaging: Tape and Reel; Length: 2mm; Width: 1.25mm; Height: 0.8mm; Capacitance: 4.7nF; Ceramic Type: X7R
footprint WCAP-CSGP_0805_L2W1.25H0.8_Reflow
footprint WCAP-CSGP_0805_L2W1.25H0.8_Wave
simulation model 0805_885012207090_4.7nF
pins: 1, 2

## 885012207091
designator C?, comment 6.8nF  (value not drawn)
WCAP-CSGP Multilayer Ceramic Chip Capacitor, General Purpose, size 0805, X7R, 6.8nF, 50VDC; Manufacturer Part Number: 885012207091; Manufacturer: Wurth Elektronik; Case/Size Code: 0805; Capacitance Tolerance: +/-10%; Dissipation Factor: 2.5%; Insulation Resistance: 10GΩ; Rated Voltage (DC): 50V; Technical Reference: X7R0805682K050DFCT10000; Category: Multilayer Ceramic Chip Capacitors; Match Code: WCAP-CSGP; ComponentLink1Description: Website Link; ComponentLink1URL: https://www.we-online.com/redexpert/article/885012207091?ad; ComponentLink2Description: Datasheet Link; ComponentLink2URL: https://www.we-online.com/redexpert/spec/885012207091?ad; Mount: Surface Mount; Operating Temperature Max: 125°C; Operating Temperature Min: -55°C; Packaging: Tape and Reel; Length: 2mm; Width: 1.25mm; Height: 0.8mm; Capacitance: 6.8nF; Ceramic Type: X7R
footprint WCAP-CSGP_0805_L2W1.25H0.8_Reflow
footprint WCAP-CSGP_0805_L2W1.25H0.8_Wave
simulation model 0805_885012207091_6.8nF
pins: 1, 2

## 885012207092
designator C?, comment 10nF  (value not drawn)
WCAP-CSGP Multilayer Ceramic Chip Capacitor, General Purpose, size 0805, X7R, 10nF, 50VDC; Manufacturer Part Number: 885012207092; Manufacturer: Wurth Elektronik; Case/Size Code: 0805; Capacitance Tolerance: +/-10%; Dissipation Factor: 2.5%; Insulation Resistance: 10GΩ; Rated Voltage (DC): 50V; Technical Reference: X7R0805103K050DFCT10000; Category: Multilayer Ceramic Chip Capacitors; Match Code: WCAP-CSGP; ComponentLink1Description: Website Link; ComponentLink1URL: https://www.we-online.com/redexpert/article/885012207092?ad; ComponentLink2Description: Datasheet Link; ComponentLink2URL: https://www.we-online.com/redexpert/spec/885012207092?ad; Mount: Surface Mount; Operating Temperature Max: 125°C; Operating Temperature Min: -55°C; Packaging: Tape and Reel; Length: 2mm; Width: 1.25mm; Height: 0.8mm; Capacitance: 10nF; Ceramic Type: X7R
footprint WCAP-CSGP_0805_L2W1.25H0.8_Reflow
footprint WCAP-CSGP_0805_L2W1.25H0.8_Wave
simulation model 0805_885012207092_10nF
pins: 1, 2

## 885012207093
designator C?, comment 15nF  (value not drawn)
WCAP-CSGP Multilayer Ceramic Chip Capacitor, General Purpose, size 0805, X7R, 15nF, 50VDC; Manufacturer Part Number: 885012207093; Manufacturer: Wurth Elektronik; Case/Size Code: 0805; Capacitance Tolerance: +/-10%; Dissipation Factor: 2.5%; Insulation Resistance: 10GΩ; Rated Voltage (DC): 50V; Technical Reference: X7R0805153K050DFCT10000; Category: Multilayer Ceramic Chip Capacitors; Match Code: WCAP-CSGP; ComponentLink1Description: Website Link; ComponentLink1URL: https://www.we-online.com/redexpert/article/885012207093?ad; ComponentLink2Description: Datasheet Link; ComponentLink2URL: https://www.we-online.com/redexpert/spec/885012207093?ad; Mount: Surface Mount; Operating Temperature Max: 125°C; Operating Temperature Min: -55°C; Packaging: Tape and Reel; Length: 2mm; Width: 1.25mm; Height: 0.8mm; Capacitance: 15nF; Ceramic Type: X7R
footprint WCAP-CSGP_0805_L2W1.25H0.8_Reflow
footprint WCAP-CSGP_0805_L2W1.25H0.8_Wave
simulation model 0805_885012207093_15nF
pins: 1, 2

## 885012207094
designator C?, comment 22nF  (value not drawn)
WCAP-CSGP Multilayer Ceramic Chip Capacitor, General Purpose, size 0805, X7R, 22nF, 50VDC; Manufacturer Part Number: 885012207094; Manufacturer: Wurth Elektronik; Case/Size Code: 0805; Capacitance Tolerance: +/-10%; Dissipation Factor: 2.5%; Insulation Resistance: 10GΩ; Rated Voltage (DC): 50V; Technical Reference: X7R0805223K050DFCT10000; Category: Multilayer Ceramic Chip Capacitors; Match Code: WCAP-CSGP; ComponentLink1Description: Website Link; ComponentLink1URL: https://www.we-online.com/redexpert/article/885012207094?ad; ComponentLink2Description: Datasheet Link; ComponentLink2URL: https://www.we-online.com/redexpert/spec/885012207094?ad; Mount: Surface Mount; Operating Temperature Max: 125°C; Operating Temperature Min: -55°C; Packaging: Tape and Reel; Length: 2mm; Width: 1.25mm; Height: 0.8mm; Capacitance: 22nF; Ceramic Type: X7R
footprint WCAP-CSGP_0805_L2W1.25H0.8_Reflow
footprint WCAP-CSGP_0805_L2W1.25H0.8_Wave
simulation model 0805_885012207094_22nF
pins: 1, 2

## 885012207095
designator C?, comment 33nF  (value not drawn)
WCAP-CSGP Multilayer Ceramic Chip Capacitor, General Purpose, size 0805, X7R, 33nF, 50VDC; Manufacturer Part Number: 885012207095; Manufacturer: Wurth Elektronik; Case/Size Code: 0805; Capacitance Tolerance: +/-10%; Dissipation Factor: 2.5%; Insulation Resistance: 10GΩ; Rated Voltage (DC): 50V; Technical Reference: X7R0805333K050DFCT10000; Category: Multilayer Ceramic Chip Capacitors; Match Code: WCAP-CSGP; ComponentLink1Description: Website Link; ComponentLink1URL: https://www.we-online.com/redexpert/article/885012207095?ad; ComponentLink2Description: Datasheet Link; ComponentLink2URL: https://www.we-online.com/redexpert/spec/885012207095?ad; Mount: Surface Mount; Operating Temperature Max: 125°C; Operating Temperature Min: -55°C; Packaging: Tape and Reel; Length: 2mm; Width: 1.25mm; Height: 0.8mm; Capacitance: 33nF; Ceramic Type: X7R
footprint WCAP-CSGP_0805_L2W1.25H0.8_Reflow
footprint WCAP-CSGP_0805_L2W1.25H0.8_Wave
simulation model 0805_885012207095_33nF
pins: 1, 2

## 885012207096
designator C?, comment 47nF  (value not drawn)
WCAP-CSGP Multilayer Ceramic Chip Capacitor, General Purpose, size 0805, X7R, 47nF, 50VDC; Manufacturer Part Number: 885012207096; Manufacturer: Wurth Elektronik; Case/Size Code: 0805; Capacitance Tolerance: +/-10%; Dissipation Factor: 2.5%; Insulation Resistance: 10GΩ; Rated Voltage (DC): 50V; Technical Reference: X7R0805473K050DFCT10000; Category: Multilayer Ceramic Chip Capacitors; Match Code: WCAP-CSGP; ComponentLink1Description: Website Link; ComponentLink1URL: https://www.we-online.com/redexpert/article/885012207096?ad; ComponentLink2Description: Datasheet Link; ComponentLink2URL: https://www.we-online.com/redexpert/spec/885012207096?ad; Mount: Surface Mount; Operating Temperature Max: 125°C; Operating Temperature Min: -55°C; Packaging: Tape and Reel; Length: 2mm; Width: 1.25mm; Height: 0.8mm; Capacitance: 47nF; Ceramic Type: X7R
footprint WCAP-CSGP_0805_L2W1.25H0.8_Reflow
footprint WCAP-CSGP_0805_L2W1.25H0.8_Wave
simulation model 0805_885012207096_47nF
pins: 1, 2

## 885012207097
designator C?, comment 68nF  (value not drawn)
WCAP-CSGP Multilayer Ceramic Chip Capacitor, General Purpose, size 0805, X7R, 68nF, 50VDC; Manufacturer Part Number: 885012207097; Manufacturer: Wurth Elektronik; Case/Size Code: 0805; Capacitance Tolerance: +/-10%; Dissipation Factor: 2.5%; Insulation Resistance: 7.4GΩ; Rated Voltage (DC): 50V; Technical Reference: X7R0805683K050DFCT10000; Category: Multilayer Ceramic Chip Capacitors; Match Code: WCAP-CSGP; ComponentLink1Description: Website Link; ComponentLink1URL: https://www.we-online.com/redexpert/article/885012207097?ad; ComponentLink2Description: Datasheet Link; ComponentLink2URL: https://www.we-online.com/redexpert/spec/885012207097?ad; Mount: Surface Mount; Operating Temperature Max: 125°C; Operating Temperature Min: -55°C; Packaging: Tape and Reel; Length: 2mm; Width: 1.25mm; Height: 0.8mm; Capacitance: 68nF; Ceramic Type: X7R
footprint WCAP-CSGP_0805_L2W1.25H0.8_Reflow
footprint WCAP-CSGP_0805_L2W1.25H0.8_Wave
simulation model 0805_885012207097_68nF
pins: 1, 2

## 885012207098
designator C?, comment 100nF  (value not drawn)
WCAP-CSGP Multilayer Ceramic Chip Capacitor, General Purpose, size 0805, X7R, 100nF, 50VDC; Manufacturer Part Number: 885012207098; Manufacturer: Wurth Elektronik; Case/Size Code: 0805; Capacitance Tolerance: +/-10%; Dissipation Factor: 2.5%; Insulation Resistance: 5GΩ; Rated Voltage (DC): 50V; Technical Reference: X7R0805104K050DFCT10000; Category: Multilayer Ceramic Chip Capacitors; Match Code: WCAP-CSGP; ComponentLink1Description: Website Link; ComponentLink1URL: https://www.we-online.com/redexpert/article/885012207098?ad; ComponentLink2Description: Datasheet Link; ComponentLink2URL: https://www.we-online.com/redexpert/spec/885012207098?ad; Mount: Surface Mount; Operating Temperature Max: 125°C; Operating Temperature Min: -55°C; Packaging: Tape and Reel; Length: 2mm; Width: 1.25mm; Height: 0.8mm; Capacitance: 100nF; Ceramic Type: X7R
footprint WCAP-CSGP_0805_L2W1.25H0.8_Reflow
footprint WCAP-CSGP_0805_L2W1.25H0.8_Wave
simulation model 0805_885012207098_100nF
pins: 1, 2

## 885012207098R
designator C?, comment 100nF  (value not drawn)
WCAP-CSGP Multilayer Ceramic Chip Capacitor, General Purpose, size 0805, X7R, 100nF, 50VDC; Manufacturer Part Number: 885012207098R; Manufacturer: Wurth Elektronik; Case/Size Code: 0805; Capacitance Tolerance: +/-10%; Dissipation Factor: 2.5%; Insulation Resistance: 5GΩ; Rated Voltage (DC): 50V; Technical Reference: X7R0805104K050DFCT20000; Category: Multilayer Ceramic Chip Capacitors; Match Code: WCAP-CSGP; ComponentLink1Description: Website Link; ComponentLink1URL: https://www.we-online.com/redexpert/article/885012207098R?ad; ComponentLink2Description: Datasheet Link; ComponentLink2URL: https://www.we-online.com/redexpert/spec/885012207098R?ad; Mount: Surface Mount; Operating Temperature Max: 125°C; Operating Temperature Min: -55°C; Packaging: Tape and Reel; Length: 2mm; Width: 1.25mm; Height: 0.8mm; Capacitance: 100nF; Ceramic Type: X7R
footprint WCAP-CSGP_0805_L2W1.25H0.8_Reflow
footprint WCAP-CSGP_0805_L2W1.25H0.8_Wave
simulation model 0805_885012207098R_100nF
pins: 1, 2

## 885012207099
designator C?, comment 150nF  (value not drawn)
WCAP-CSGP Multilayer Ceramic Chip Capacitor, General Purpose, size 0805, X7R, 150nF, 50VDC; Manufacturer Part Number: 885012207099; Manufacturer: Wurth Elektronik; Case/Size Code: 0805; Capacitance Tolerance: +/-10%; Dissipation Factor: 2.5%; Insulation Resistance: 3.3GΩ; Rated Voltage (DC): 50V; Technical Reference: X7R0805154K050DFCT10000; Category: Multilayer Ceramic Chip Capacitors; Match Code: WCAP-CSGP; ComponentLink1Description: Website Link; ComponentLink1URL: https://www.we-online.com/redexpert/article/885012207099?ad; ComponentLink2Description: Datasheet Link; ComponentLink2URL: https://www.we-online.com/redexpert/spec/885012207099?ad; Mount: Surface Mount; Operating Temperature Max: 125°C; Operating Temperature Min: -55°C; Packaging: Tape and Reel; Length: 2mm; Width: 1.25mm; Height: 1.25mm; Capacitance: 150nF; Ceramic Type: X7R
footprint WCAP-CSGP_0805_L2W1.25H1.25
simulation model 0805_885012207099_150nF
pins: 1, 2

## 885012207100
designator C?, comment 220nF  (value not drawn)
WCAP-CSGP Multilayer Ceramic Chip Capacitor, General Purpose, size 0805, X7R, 220nF, 50VDC; Manufacturer Part Number: 885012207100; Manufacturer: Wurth Elektronik; Case/Size Code: 0805; Capacitance Tolerance: +/-10%; Dissipation Factor: 3%; Insulation Resistance: 2.3GΩ; Rated Voltage (DC): 50V; Technical Reference: X7R0805224K050DFCT10000; Category: Multilayer Ceramic Chip Capacitors; Match Code: WCAP-CSGP; ComponentLink1Description: Website Link; ComponentLink1URL: https://www.we-online.com/redexpert/article/885012207100?ad; ComponentLink2Description: Datasheet Link; ComponentLink2URL: https://www.we-online.com/redexpert/spec/885012207100?ad; Mount: Surface Mount; Operating Temperature Max: 125°C; Operating Temperature Min: -55°C; Packaging: Tape and Reel; Length: 2mm; Width: 1.25mm; Height: 1.25mm; Capacitance: 220nF; Ceramic Type: X7R
footprint WCAP-CSGP_0805_L2W1.25H1.25
simulation model 0805_885012207100_220nF
pins: 1, 2